# EAGLE library part AVR-ISP-6PIN-EDGE (library Custom_Parts)
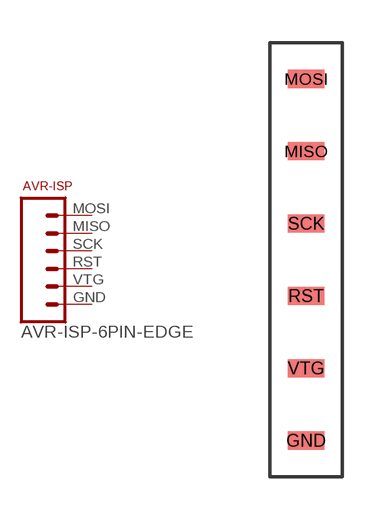
[diagram p0: symbol with the pads of AVR-6PIN-ISP-EDGE; footprint AVR-6PIN-ISP-EDGE]

Designator prefix -

## AVR-ISP-6PIN-EDGE  [AVR-6PIN-ISP-EDGE]
GND  GND  pas
MISO  MISO  pas
MOSI  MOSI  pas
RST  RST  pas
SCK  SCK  pas
VTG  VTG  pas

## Footprint AVR-6PIN-ISP-EDGE (pad centres in mm)
smd 1.27 x 0.635: GND 0,0; MISO 0,10.16; MOSI 0,12.7; RST 0,5.08; SCK 0,7.62; VTG 0,2.54